# EAGLE library part HARWIN20 (library DSDEagleLibrary)
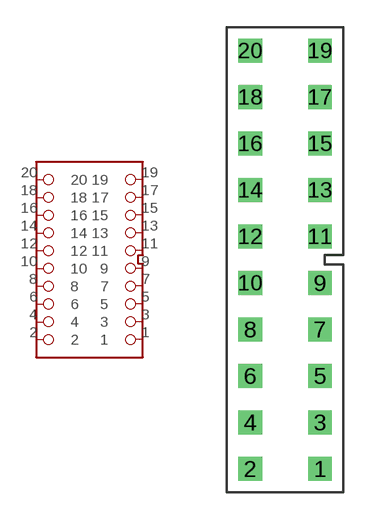
[diagram p37: symbol with the pads of HARWIN20; footprint HARWIN20]

Designator prefix -

## HARWIN20  [HARWIN20]
1  1
2  2
3  3
4  4
5  5
6  6
7  7
8  8
9  9
10  10
11  11
12  12
13  13
14  14
15  15
16  16
17  17
18  18
19  19
20  20

## Footprint HARWIN20 (pad centres in mm)
drill 0.8 square: 1 5.08,1.27; 2 1.27,1.27; 3 5.08,3.81; 4 1.27,3.81; 5 5.08,6.35; 6 1.27,6.35; 7 5.08,8.89; 8 1.27,8.89; 9 5.08,11.43; 10 1.27,11.43; 11 5.08,13.97; 12 1.27,13.97; 13 5.08,16.51; 14 1.27,16.51; 15 5.08,19.05; 16 1.27,19.05; 17 5.08,21.59; 18 1.27,21.59; 19 5.08,24.13; 20 1.27,24.13